# EAGLE library part WURTH_WR-TBL-2416-6 (library travis)
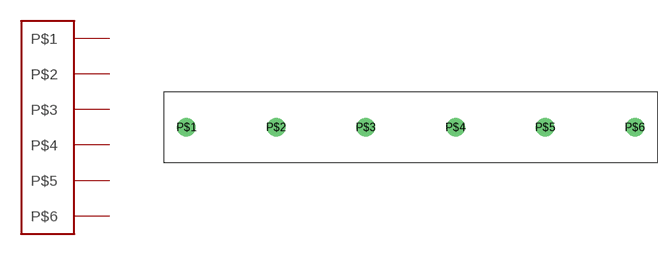
[diagram p0: symbol with the pads of WURTH_WR-TBL-2416-6; footprint WURTH_WR-TBL-2416-6]

Designator prefix -

## WURTH_WR-TBL-2416-6  [WURTH_WR-TBL-2416-6]
P$1  P$1
P$2  P$2
P$3  P$3
P$4  P$4
P$5  P$5
P$6  P$6

## Footprint WURTH_WR-TBL-2416-6 (pad centres in mm)
drill 1.3 pad 2.1: P$1 -25.4,0; P$2 -15.24,0; P$3 -5.08,0; P$4 5.08,0; P$5 15.24,0; P$6 25.4,0